# Altium schematic symbol library AX88179.SchLib: 1 symbol
Pins are listed as number, name and electrical type; pins without a type are passive.

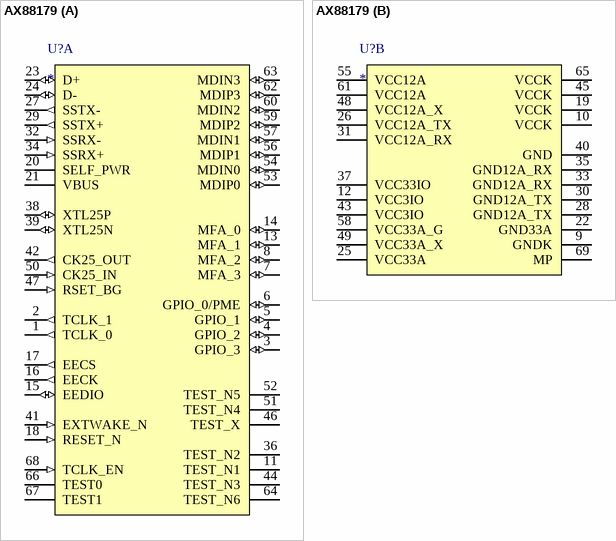
[diagram p0: symbol AX88179]

## AX88179
designator U?
part A pins: 1 TCLK_0 (out), 2 TCLK_1 (out), 3 GPIO_3 (io), 4 GPIO_2 (io), 5 GPIO_1 (io), 6 GPIO_0/PME (io), 7 MFA_3 (io), 8 MFA_2 (io), 11 TEST_N1, 13 MFA_1 (io), 14 MFA_0 (io), 15 EEDIO (io), 16 EECK (out), 17 EECS (out), 18 RESET_N (in), 20 SELF_PWR, 21 VBUS (power), 23 D+ (io), 24 D- (io), 27 SSTX- (out), 29 SSTX+ (out), 32 SSRX- (in), 34 SSRX+ (in), 36 TEST_N2, 38 XTL25P (io), 39 XTL25N (io), 41 EXTWAKE_N (in), 42 CK25_OUT (out), 44 TEST_N3, 46 TEST_X, 47 RSET_BG (in), 50 CK25_IN (in), 51 TEST_N4, 52 TEST_N5, 53 MDIP0 (io), 54 MDIN0 (io), 56 MDIP1 (io), 57 MDIN1 (io), 59 MDIP2 (io), 60 MDIN2 (io), 62 MDIP3 (io), 63 MDIN3 (io), 64 TEST_N6, 66 TEST0, 67 TEST1, 68 TCLK_EN (in)
part B pins: 9 GNDK (power), 10 VCCK (power), 12 VCC3IO (power), 19 VCCK (power), 22 GND33A (power), 25 VCC33A (power), 26 VCC12A_TX (power), 28 GND12A_TX (power), 30 GND12A_TX (power), 31 VCC12A_RX (power), 33 GND12A_RX (power), 35 GND12A_RX (power), 37 VCC33IO (power), 40 GND (power), 43 VCC3IO (power), 45 VCCK (power), 48 VCC12A_X (power), 49 VCC33A_X (power), 55 VCC12A (power), 58 VCC33A_G (power), 61 VCC12A (power), 65 VCCK (power), 69 MP (power)